# Altium schematic symbol library Arduino_UNO.SchLib: 1 symbol
Pins are listed as number, name and electrical type; pins without a type are passive.

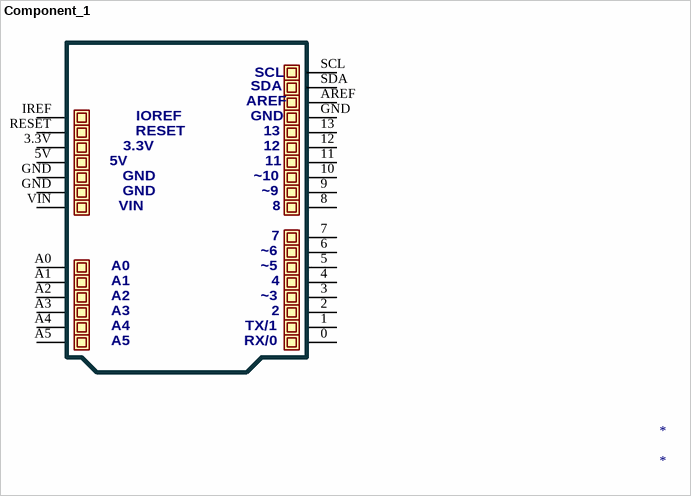
[diagram p0: symbol Component_1]

## Component_1
designator *
pins: 0, 1, 2, 3, 3.3V, 4, 5, 5V, 6, 7, 8, 9, 10, 11, 12, 13, A0, A1, A2, A3, A4, A5, AREF, GND, GND, GND, IREF, RESET, SCL, SDA, VIN
text: IOREF; ~10; ~9; ~6; ~5; ~3; TX/1; RX/0